# Altium footprint library SMB.PcbLib: 1 footprints
Each footprint in its own frame and in the unit in brackets; x right, y up, seen from the top. Pads: shape width x height; smd on the part's side, far side on the other; paste and mask are expansions set on the pad; w line width, h text height; cw(c..) or ccw(c..) is an arc to the next point about the centre after c.
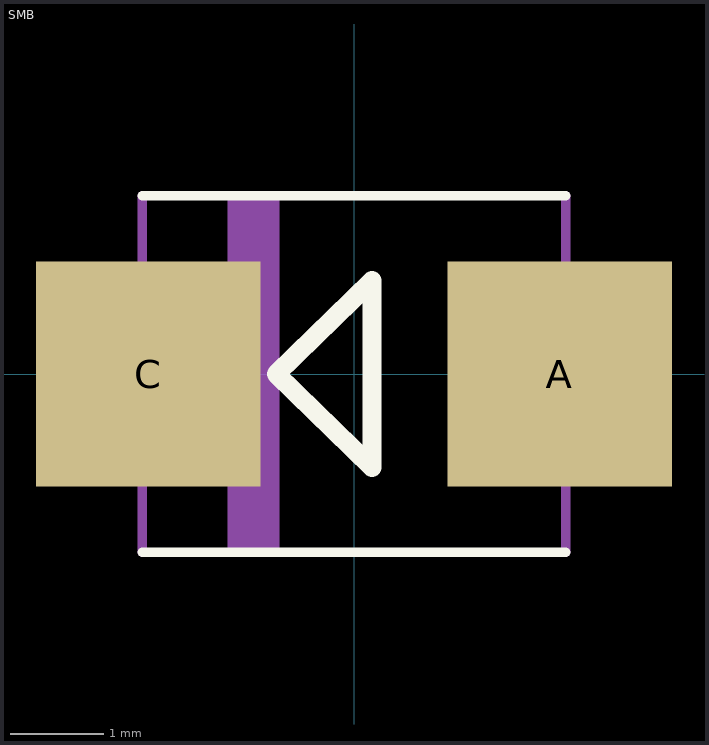
[diagram p0: the footprint, top view; thin cyan lines are the x and y axes]

## SMB [mm]
pads (2):
  rect 2.4x2.4 smd: A(2.2,0) C(-2.2,0)
Top Overlay:
  lines w0.102: -2.261,-1.905 2.261,-1.905 ; -2.261,1.905 2.261,1.905
  lines w0.203: -0.83,0 0.193,-1 0.193,1 -0.83,0
Mechanical 13:
  region: -0.8,-1.9 -1.35,-1.9 -1.35,1.9 -0.8,1.9
  region: 2.794,-1.092 2.261,-1.092 2.261,1.092 2.794,1.092
  region: -2.261,-1.092 -2.794,-1.092 -2.794,1.092 -2.261,1.092
  lines w0.102: -2.261,-1.905 -2.261,1.905 ; 2.261,-1.905 2.261,1.905
3D body "MBRS260T3G.STEP": height 2.49, standoff 0.02, extent -2.72,-1.78 2.72,1.78